# Altium footprint library SOT23A.PcbLib: 1 footprints
Each footprint in its own frame and in the unit in brackets; x right, y up, seen from the top. Pads: shape width x height; smd on the part's side, far side on the other; paste and mask are expansions set on the pad; w line width, h text height; cw(c..) or ccw(c..) is an arc to the next point about the centre after c.
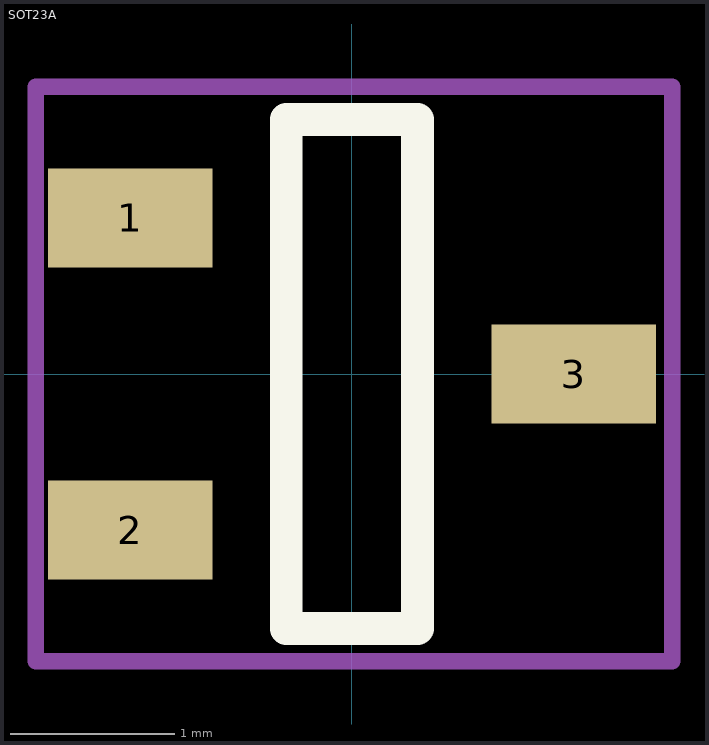
[diagram p0: the footprint, top view; thin cyan lines are the x and y axes]

## SOT23A [mm]
height 1.1
pads (3):
  rect 1x0.6 smd: 1(-1.35,0.95) 2(-1.35,-0.95) 3(1.35,0)
Top Overlay:
  lines w0.2: -0.4,-1.55 0.4,-1.55 0.4,1.55 -0.4,1.55 -0.4,-1.55
Top Assembly:
  lines w0.1: -1.925,-1.75 1.95,-1.75 1.95,1.75 -1.925,1.75 -1.925,-1.75
  text "'.Designator'" at 0.375,-0.825 h0.7
3D body "sot23-3.STEP": height 1.02, standoff 0, extent -1.25,-1.46 1.226,1.46